# Altium footprint library 687 1xx 182 122.PcbLib: 18 footprints (part 2 of 2)
Each footprint in its own frame and in the unit in brackets; x right, y up, seen from the top. Pads: shape width x height; smd on the part's side, far side on the other; paste and mask are expansions set on the pad; w line width, h text height; cw(c..) or ccw(c..) is an arc to the next point about the centre after c.
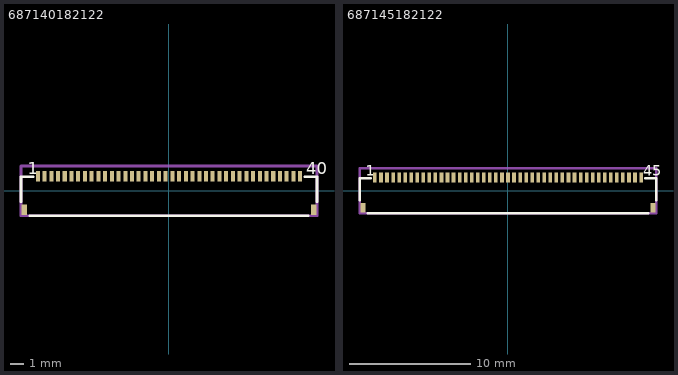
[diagram p1: the footprints below, top view; thin cyan lines are the x and y axes]

## 687140182122 [mm] "0.50 mm SMT ZIF Horizontal Dual Contact, 40p"
height 0.96
pads (42):
  rect 0.3x0.8 smd: 1(-9.75,1.1) 2(-9.25,1.1) 3(-8.75,1.1) 4(-8.25,1.1) 5(-7.75,1.1) 6(-7.25,1.1) 7(-6.75,1.1) 8(-6.25,1.1) 9(-5.75,1.1) 10(-5.25,1.1) 11(-4.75,1.1) 12(-4.25,1.1) 13(-3.75,1.1) 14(-3.25,1.1) 15(-2.75,1.1) 16(-2.25,1.1) 17(-1.75,1.1) 18(-1.25,1.1) 19(-0.75,1.1) 20(-0.25,1.1) 21(0.25,1.1) 22(0.75,1.1) 23(1.25,1.1) 24(1.75,1.1) 25(2.25,1.1) 26(2.75,1.1) 27(3.25,1.1) 28(3.75,1.1) 29(4.25,1.1) 30(4.75,1.1) 31(5.25,1.1) 32(5.75,1.1) 33(6.25,1.1) 34(6.75,1.1) 35(7.25,1.1) 36(7.75,1.1) 37(8.25,1.1) 38(8.75,1.1) 39(9.25,1.1) 40(9.75,1.1)
  rect 0.4x0.8 smd: ""(-10.75,-1.4) ""(10.75,-1.4)
Top Overlay:
  lines w0.2: -11,-0.8 -11,1.05 -10.105,1.05 ; -10.35,-1.85 10.35,-1.85 ; 10.105,1.05 11,1.05 11,-0.8
  text "1" at -10.5,1.25 h0.89
  text "40" at 10.2,1.25 h0.89
Mechanical 13:
  lines w0.2: -11,-1.85 -11,1.85 11,1.85 11,-1.85 -11,-1.85
3D body "687140182122.stp": height 0.98, standoff -0.01, extent -11,-1.85 11,1.85

## 687145182122 [mm] "0.50 mm SMT ZIF Horizontal Dual Contact, 45p"
height 0.96
pads (47):
  rect 0.3x0.8 smd: 1(-11,1.1) 2(-10.5,1.1) 3(-10,1.1) 4(-9.5,1.1) 5(-9,1.1) 6(-8.5,1.1) 7(-8,1.1) 8(-7.5,1.1) 9(-7,1.1) 10(-6.5,1.1) 11(-6,1.1) 12(-5.5,1.1) 13(-5,1.1) 14(-4.5,1.1) 15(-4,1.1) 16(-3.5,1.1) 17(-3,1.1) 18(-2.5,1.1) 19(-2,1.1) 20(-1.5,1.1) 21(-1,1.1) 22(-0.5,1.1) 23(0,1.1) 24(0.5,1.1) 25(1,1.1) 26(1.5,1.1) 27(2,1.1) 28(2.5,1.1) 29(3,1.1) 30(3.5,1.1) 31(4,1.1) 32(4.5,1.1) 33(5,1.1) 34(5.5,1.1) 35(6,1.1) 36(6.5,1.1) 37(7,1.1) 38(7.5,1.1) 39(8,1.1) 40(8.5,1.1) 41(9,1.1) 42(9.5,1.1) 43(10,1.1) 44(10.5,1.1) 45(11,1.1)
  rect 0.4x0.8 smd: ""(-12,-1.4) ""(12,-1.4)
Top Overlay:
  lines w0.2: -12.25,-0.8 -12.25,1.05 -11.355,1.05 ; -11.6,-1.85 11.6,-1.85 ; 11.355,1.05 12.25,1.05 12.25,-0.8
  text "1" at -11.75,1.25 h0.89
  text "45" at 11.2,1.25 h0.89
Mechanical 13:
  lines w0.2: -12.25,-1.85 -12.25,1.85 12.25,1.85 12.25,-1.85 -12.25,-1.85
3D body "687145182122.stp": height 0.98, standoff -0.01, extent -12.25,-1.85 12.25,1.85